# EAGLE library part PSRAM64H (library PSRAM64H)
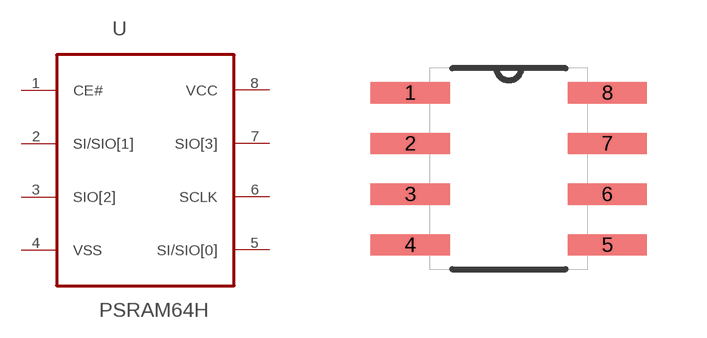
[diagram p0: symbol with the pads of SOIC127P600X175-8N; footprint SOIC127P600X175-8N]

Designator prefix U

## PSRAM64H  [SOIC127P600X175-8N]
1  CE#
2  SI/SIO[1]
3  SIO[2]
4  VSS  pwr
5  SI/SIO[0]
6  SCLK
7  SIO[3]
8  VCC  pwr

## Footprint SOIC127P600X175-8N (pad centres in mm)
smd 1.981 x 0.533: 1 -2.464,1.905; 2 -2.464,0.635; 3 -2.464,-0.635; 4 -2.464,-1.905; 5 2.464,-1.905; 6 2.464,-0.635; 7 2.464,0.635; 8 2.464,1.905